# Altium footprint library CAN_FootprintLib.PcbLib: 5 footprints
Each footprint in its own frame and in the unit in brackets; x right, y up, seen from the top. Pads: shape width x height; smd on the part's side, far side on the other; paste and mask are expansions set on the pad; w line width, h text height; cw(c..) or ccw(c..) is an arc to the next point about the centre after c.
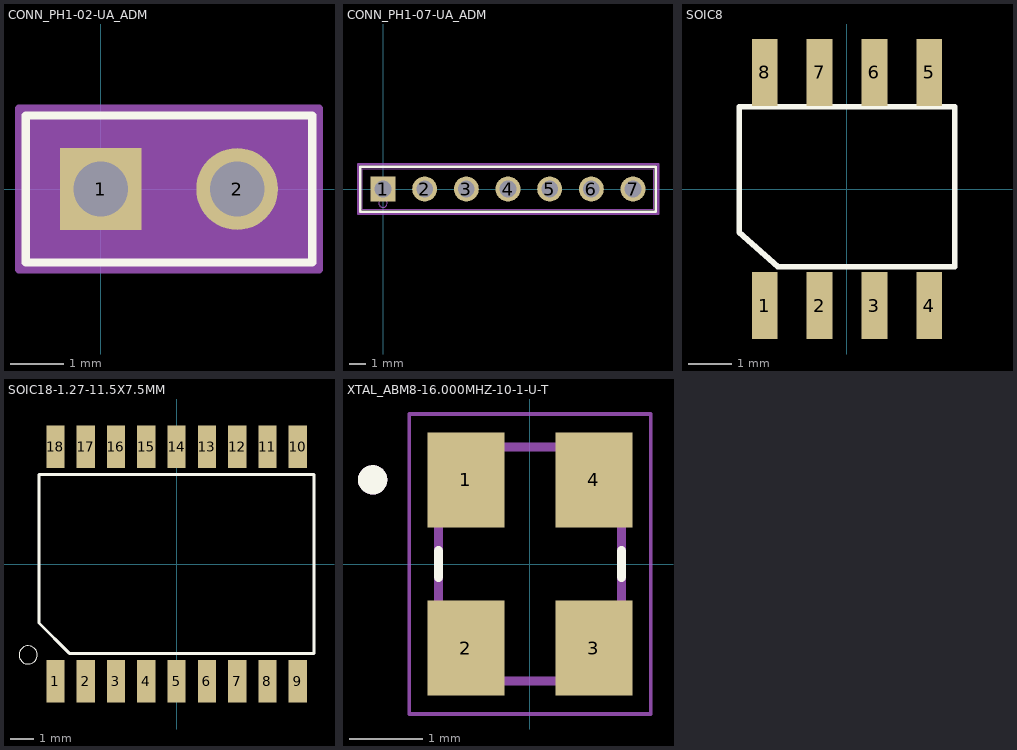
[diagram p0: the footprints below, top view; thin cyan lines are the x and y axes]

## CONN_PH1-02-UA_ADM [mil]
pads (2):
  rect 60x60 hole 40 paste-99999 mask+0: 1(0,0)
  round 60 hole 40 paste-99999 mask+0: 2(100,0)
Top Overlay:
  lines w6: -55,-54 -55,54 155,54 155,-54 -55,-54
  text ".Designator" at -87.5,-25 h50
Mechanical Layer:
  circle w1: c0,-34 r10
  lines w1: -50,-49 -50,49 150,49 150,-49 -50,-49
  text ".Designator" at -87.5,-25 h50
Mechanical 15:
  region: 160,59 -60,59 -60,-59 160,-59
  lines w6: -60,-59 160,-59 160,59 -60,59 -60,-59
3D body "CONN_PH1-02-UA_ADM.step": height 335, standoff -200, extent -50,-49.02 150,49.02

## CONN_PH1-07-UA_ADM [mil]
pads (7):
  rect 60x60 hole 40 paste-99999 mask+0: 1(0,0)
  round 60 hole 40 paste-99999 mask+0: 2(100,0) 3(200,0) 4(300,0) 5(400,0) 6(500,0) 7(600,0)
Top Overlay:
  lines w6: -55,-54 655,-54 655,54 -55,54 -55,-54
  text ".Designator" at 162.5,-25 h50
Mechanical Layer:
  circle w1: c0,-34 r10
  lines w1: -50,-49 650,-49 650,49 -50,49 -50,-49
  text ".Designator" at 162.5,-25 h50
Mechanical 15:
  lines w6: -60,-59 -60,59 660,59 660,-59 -60,-59
3D body "CONN_PH1-07-UA_ADM.step": height 335, standoff -200, extent -50,-49.02 650,49.02

## SOIC8 [mm]
pads (8):
  rect 0.6x1.55 smd: 1(-1.905,-2.7) 2(-0.635,-2.7) 3(0.635,-2.7) 4(1.905,-2.7) 5(1.905,2.7) 6(0.635,2.7) 7(-0.635,2.7) 8(-1.905,2.7)
Top Overlay:
  lines w0.127: -2.5,-1 -2.5,1.9 2.5,1.9 2.5,-1.8 -1.6,-1.8 -2.5,-1
3D body "SOIC-8.step": height 1.75, standoff 0, extent -2.5,-2.944 2.5,3.056

## SOIC18-1.27-11.5X7.5MM [mil]
pads (18):
  rect 30x70 smd: 1(-200,-193.5) 2(-150,-193.5) 3(-100,-193.5) 4(-50,-193.5) 5(0,-193.5) 6(50,-193.5) 7(100,-193.5) 8(150,-193.5) 9(200,-193.5) 10(200,193.5) 11(150,193.5) 12(100,193.5) 13(50,193.5) 14(0,193.5) 15(-50,193.5) 16(-100,193.5) 17(-150,193.5) 18(-200,193.5)
Top Overlay:
  circle w0: c-245,-150 r15
  lines w5: -227,-97.5 -177,-147.5 227,-147.5 227,147.5 -227,147.5 -227,-97.5
3D body "step_temp.STEP": height 104.33, standoff 0, extent -227.36,-202.76 227.36,202.76

## XTAL_ABM8-16.000MHZ-10-1-U-T [mm]
height 0.8
pads (4):
  rect 1.05x1.3 smd: 1(-0.875,1.15) 2(-0.875,-1.15) 3(0.875,-1.15) 4(0.875,1.15)
Top Overlay:
  circle w0.2: c-2.15,1.15 r0.1
  lines w0.127: -1.25,-0.18 -1.25,0.18 ; 1.25,-0.18 1.25,0.18
Mechanical Layer:
  circle w0.2: c-2.15,1.15 r0.1
  lines w0.127: -1.25,-1.6 -1.25,1.6 1.25,1.6 1.25,-1.6 -1.25,-1.6
Mechanical 15:
  lines w0.05: -1.65,-2.05 -1.65,2.05 1.65,2.05 1.65,-2.05 -1.65,-2.05
3D body "step_temp.STEP": height 0.8, standoff 0, extent -1.25,-1.6 1.25,1.6